# Altium footprint library roboime.PcbLib: 15 footprints
Each footprint in its own frame and in the unit in brackets; x right, y up, seen from the top. Pads: shape width x height; smd on the part's side, far side on the other; paste and mask are expansions set on the pad; w line width, h text height; cw(c..) or ccw(c..) is an arc to the next point about the centre after c.
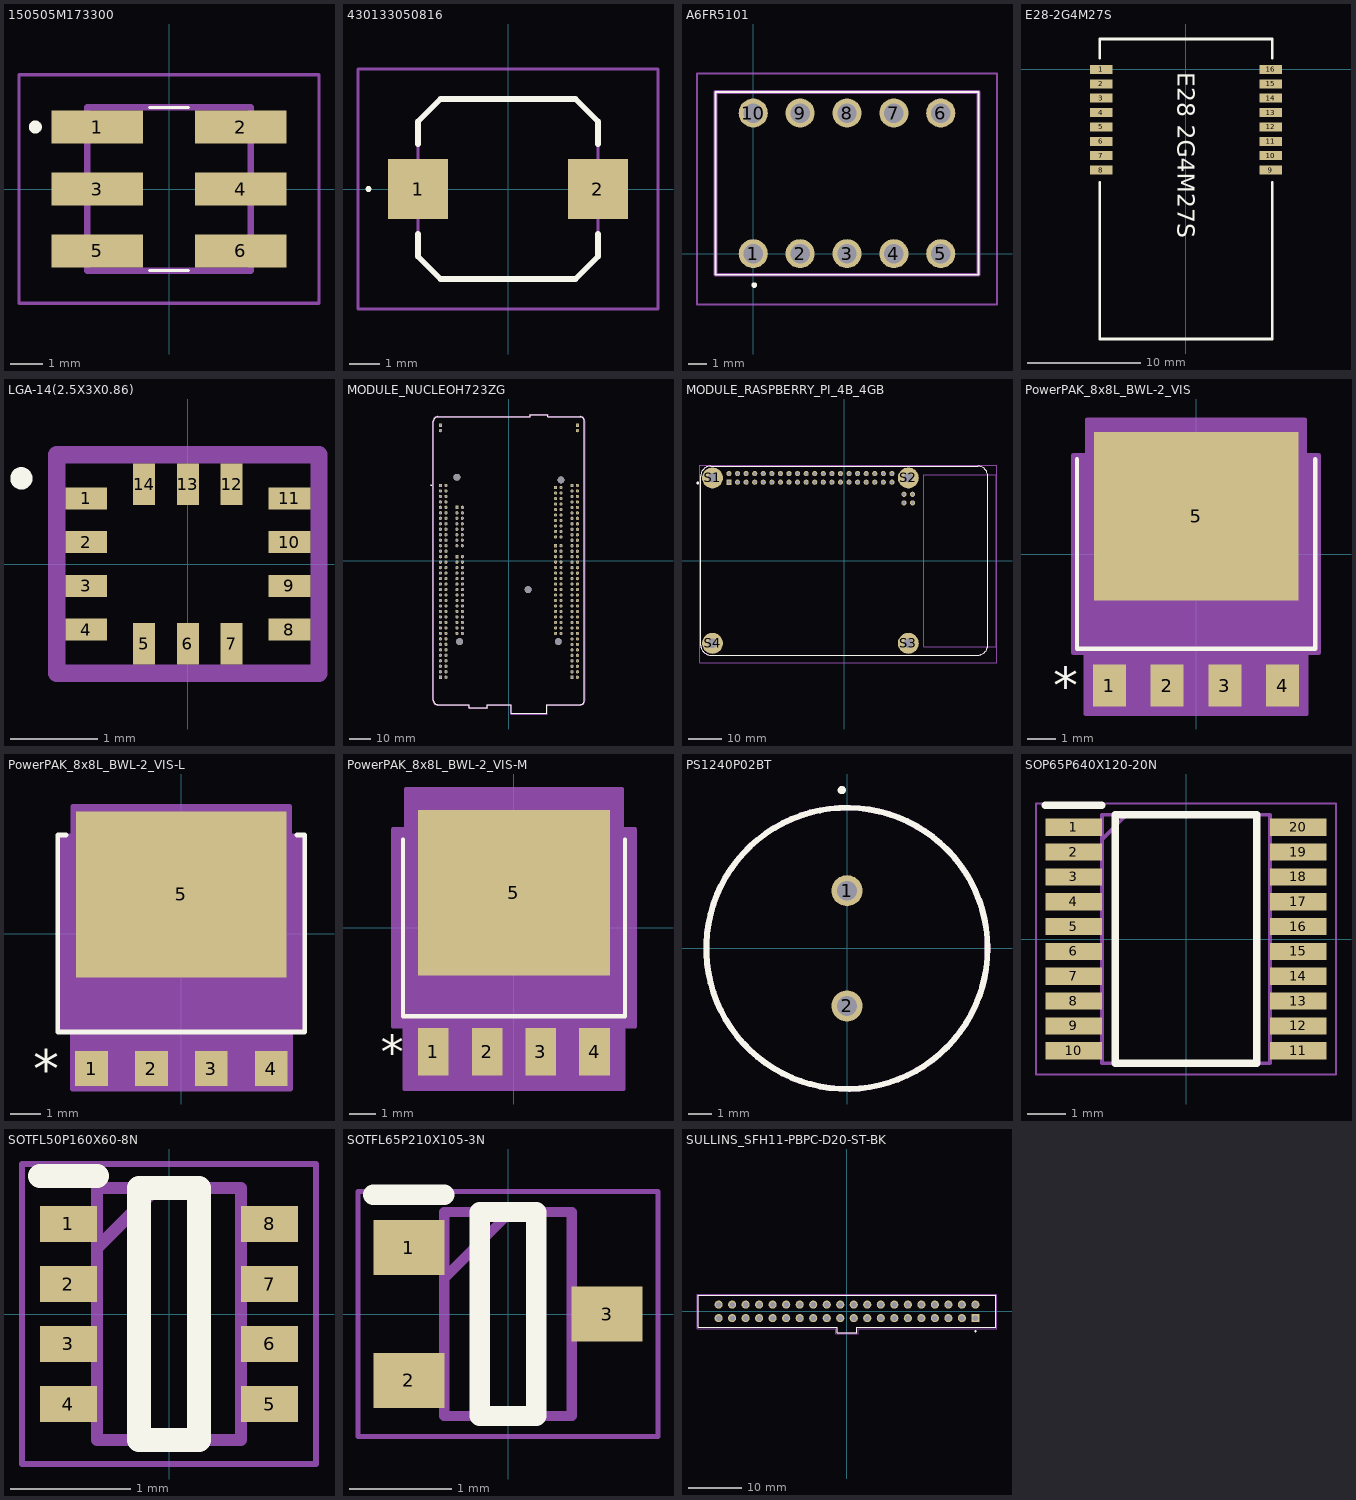
[diagram p0: the footprints below, top view; thin cyan lines are the x and y axes]

## 150505M173300 [mm]
pads (6):
  rect 2.8x1 smd: 1(-2.2,1.9) 2(2.2,1.9) 3(-2.2,0) 4(2.2,0) 5(-2.2,-1.9) 6(2.2,-1.9)
Top Overlay:
  lines w0.1: -0.6,-2.5 0.6,-2.5 ; -0.6,2.5 0.6,2.5
  lines w0.2: -4.1,1.8 cw(c-4.1,1.9) -4.1,2 cw(c-4.1,1.9) -4.1,1.8
Mechanical 13:
  lines w0.2: -2.5,-2.5 2.5,-2.5 2.5,2.5 -2.5,2.5 -2.5,-2.5
Mechanical 15:
  lines w0.1: -4.6,-3.5 4.6,-3.5 4.6,3.5 -4.6,3.5 -4.6,-3.5
3D body "150505M173300.stp": height 1.6, standoff 0, extent -2.7,-2.5 2.7,2.5

## 430133050816 [mm]
pads (2):
  rect 2x2 smd: 1(-3,0) 2(3,0)
Top Overlay:
  lines w0.1: -4.7,0 ccw(c-4.65,0) -4.6,0 ccw(c-4.65,0) -4.7,0
  lines w0.2: -3,-1.5 -3,-2.25 -2.25,-3 2.25,-3 3,-2.25 3,-1.5 ; -3,1.5 -3,2.25 -2.25,3 2.25,3 3,2.25 3,1.5
Mechanical 13:
  lines w0.1: -3,-2.25 -2.25,-3 2.25,-3 3,-2.25 3,2.25 2.25,3 0,3 -2.25,3 -3,2.25 -3,-2.25
Mechanical 15:
  lines w0.1: -5,-4 -5,4 5,4 5,-4 -5,-4
3D body "430133050816.stp": height 5.3, standoff 0, extent -3.8,-3 3.8,3

## A6FR5101 [mm]
pads (10):
  round 1.575 hole 1.05: 1(0,0) 2(2.54,0) 3(5.08,0) 4(7.62,0) 5(10.16,0) 6(10.16,7.62) 7(7.62,7.62) 8(5.08,7.62) 9(2.54,7.62) 10(0,7.62)
Top Overlay:
  lines w0.1: -2.05,-1.14 -2.05,8.76 12.21,8.76 12.21,-1.14 -2.05,-1.14
  lines w0.2: 0,-1.7 ccw(c0.05,-1.7) 0.1,-1.7 ; 0,-1.7 cw(c0.05,-1.7) 0.1,-1.7 ; 0,-1.7 ccw(c0.05,-1.7) 0.1,-1.7
Mechanical 13:
  lines w0.2: -2.05,-1.14 -2.05,8.76 12.21,8.76 12.21,-1.14 -2.05,-1.14
Mechanical 15:
  lines w0.1: -3.05,-2.75 -3.05,9.76 13.21,9.76 13.21,-2.75 -3.05,-2.75
3D body "A6FR-5101.stp": height 10.4, standoff -5, extent -2.05,-1.14 12.21,8.76

## E28-2G4M27S [mm] "E28-2G4M27S Module"
height 2.85
pads (16):
  rect 2x0.8 smd: 1(-7.5,0) 2(-7.5,-1.27) 3(-7.5,-2.54) 4(-7.5,-3.81) 5(-7.5,-5.08) 6(-7.5,-6.35) 7(-7.5,-7.62) 8(-7.5,-8.89) 9(7.5,-8.89) 10(7.5,-7.62) 11(7.5,-6.35) 12(7.5,-5.08) 13(7.5,-3.81) 14(7.5,-2.54) 15(7.5,-1.27) 16(7.5,0)
Top Overlay:
  lines w0.254: -7.62,-10 -7.62,-23.81 7.62,-23.81 7.62,-10 ; -7.62,1 -7.62,2.69 7.62,2.69 7.62,1
  text "E28 2G4M27S" at -0.746,-0.254 h1.52
3D body "E28-2G4M27S.STEP": height 2.81, standoff 0.01, extent -7.5,-23.81 7.5,2.69

## LGA-14(2.5X3X0.86) [mm]
pads (14):
  rect 0.475x0.25 smd: 1(-1.162,0.75) 2(-1.162,0.25) 3(-1.162,-0.25) 4(-1.162,-0.75) 8(1.162,-0.75) 9(1.162,-0.25) 10(1.162,0.25) 11(1.162,0.75)
  rect 0.25x0.475 smd: 5(-0.5,-0.913) 6(0,-0.913) 7(0.5,-0.913) 12(0.5,0.913) 13(0,0.913) 14(-0.5,0.913)
Top Overlay:
  circle w0.2: c-1.905,0.98 r0.027
Mechanical 13:
  lines w0.2: -1.5,-1.25 -1.5,1.25 1.5,1.25 1.5,-1.25 -1.5,-1.25
3D body "LSM6DS3TR-C.stp": height 0.86, standoff 0, extent -1.5,-1.25 1.5,1.25

## MODULE_NUCLEOH723ZG [mm]
height 18.57
pads (253):
  rect 1.508x1.508 / inner round 1.508 / far side rect 1.508x1.508 hole 1: CN3_1(-31.75,62.87) CN4_1(31.75,62.87) CN7_1(21.59,33.914) CN8_1(-24.13,24.77) CN9_1(-24.13,1.91) CN10_1(21.59,6.99) CN11_1(-31.75,34.93) CN12_1(29.21,34.91) CN15_1(29.21,-53.99) CN16_1(-31.75,-53.97)
  round 1.508 hole 1: CN3_2(-31.75,60.33) CN4_2(31.75,60.33) CN7_2(24.13,33.914) CN7_3(21.59,31.374) CN7_4(24.13,31.374) CN7_5(21.59,28.834) CN7_6(24.13,28.834) CN7_7(21.59,26.294) CN7_8(24.13,26.294) CN7_9(21.59,23.754) CN7_10(24.13,23.754) CN7_11(21.59,21.214) CN7_12(24.13,21.214) CN7_13(21.59,18.674) CN7_14(24.13,18.674) CN7_15(21.59,16.134) CN7_16(24.13,16.134) CN7_17(21.59,13.594) CN7_18(24.13,13.594) CN7_19(21.59,11.054) CN7_20(24.13,11.054) CN8_2(-21.59,24.77) CN8_3(-24.13,22.23) CN8_4(-21.59,22.23) CN8_5(-24.13,19.69) CN8_6(-21.59,19.69) CN8_7(-24.13,17.15) CN8_8(-21.59,17.15) CN8_9(-24.13,14.61) CN8_10(-21.59,14.61) CN8_11(-24.13,12.07) CN8_12(-21.59,12.07) CN8_13(-24.13,9.53) CN8_14(-21.59,9.53) CN8_15(-24.13,6.99) CN8_16(-21.59,6.99) CN9_2(-21.59,1.91) CN9_3(-24.13,-0.63) CN9_4(-21.59,-0.63) CN9_5(-24.13,-3.17) CN9_6(-21.59,-3.17) CN9_7(-24.13,-5.71) CN9_8(-21.59,-5.71) CN9_9(-24.13,-8.25) CN9_10(-21.59,-8.25) CN9_11(-24.13,-10.79) CN9_12(-21.59,-10.79) CN9_13(-24.13,-13.33) CN9_14(-21.59,-13.33) CN9_15(-24.13,-15.87) CN9_16(-21.59,-15.87) CN9_17(-24.13,-18.41) CN9_18(-21.59,-18.41) CN9_19(-24.13,-20.95) CN9_20(-21.59,-20.95) CN9_21(-24.13,-23.49) CN9_22(-21.59,-23.49) CN9_23(-24.13,-26.03) CN9_24(-21.59,-26.03) CN9_25(-24.13,-28.57) CN9_26(-21.59,-28.57) CN9_27(-24.13,-31.11) CN9_28(-21.59,-31.11) CN9_29(-24.13,-33.65) CN9_30(-21.59,-33.65) CN10_2(24.13,6.99) CN10_3(21.59,4.45) CN10_4(24.13,4.45) CN10_5(21.59,1.91) CN10_6(24.13,1.91) CN10_7(21.59,-0.63) CN10_8(24.13,-0.63) CN10_9(21.59,-3.17) CN10_10(24.13,-3.17) CN10_11(21.59,-5.71) CN10_12(24.13,-5.71) CN10_13(21.59,-8.25) CN10_14(24.13,-8.25) CN10_15(21.59,-10.79) CN10_16(24.13,-10.79) CN10_17(21.59,-13.33) CN10_18(24.13,-13.33) CN10_19(21.59,-15.87) CN10_20(24.13,-15.87) CN10_21(21.59,-18.41) CN10_22(24.13,-18.41) CN10_23(21.59,-20.95) CN10_24(24.13,-20.95) CN10_25(21.59,-23.49) CN10_26(24.13,-23.49) CN10_27(21.59,-26.03) CN10_28(24.13,-26.03) CN10_29(21.59,-28.57) CN10_30(24.13,-28.57) CN10_31(21.59,-31.11) CN10_32(24.13,-31.11) CN10_33(21.59,-33.65) CN10_34(24.13,-33.65) CN11_2(-29.21,34.93) CN11_3(-31.75,32.39) CN11_4(-29.21,32.39) CN11_5(-31.75,29.85) CN11_6(-29.21,29.85) CN11_7(-31.75,27.31) CN11_8(-29.21,27.31) CN11_9(-31.75,24.77) CN11_10(-29.21,24.77) CN11_11(-31.75,22.23) CN11_12(-29.21,22.23) CN11_13(-31.75,19.69) CN11_14(-29.21,19.69) CN11_15(-31.75,17.15) CN11_16(-29.21,17.15) CN11_17(-31.75,14.61) CN11_18(-29.21,14.61) CN11_19(-31.75,12.07) CN11_20(-29.21,12.07) CN11_21(-31.75,9.53) CN11_22(-29.21,9.53) CN11_23(-31.75,6.99) CN11_24(-29.21,6.99) CN11_25(-31.75,4.45) CN11_26(-29.21,4.45) CN11_27(-31.75,1.91) CN11_28(-29.21,1.91) CN11_29(-31.75,-0.63) CN11_30(-29.21,-0.63) CN11_31(-31.75,-3.17) CN11_32(-29.21,-3.17) CN11_33(-31.75,-5.71) CN11_34(-29.21,-5.71) CN11_35(-31.75,-8.25) CN11_36(-29.21,-8.25) CN11_37(-31.75,-10.79) CN11_38(-29.21,-10.79) CN11_39(-31.75,-13.33) CN11_40(-29.21,-13.33) CN11_41(-31.75,-15.87) CN11_42(-29.21,-15.87) CN11_43(-31.75,-18.41) CN11_44(-29.21,-18.41) CN11_45(-31.75,-20.95) CN11_46(-29.21,-20.95) CN11_47(-31.75,-23.49) CN11_48(-29.21,-23.49) CN11_49(-31.75,-26.03) CN11_50(-29.21,-26.03) CN11_51(-31.75,-28.57) CN11_52(-29.21,-28.57) CN11_53(-31.75,-31.11) CN11_54(-29.21,-31.11) CN11_55(-31.75,-33.65) CN11_56(-29.21,-33.65) CN11_57(-31.75,-36.19) CN11_58(-29.21,-36.19) CN11_59(-31.75,-38.73) CN11_60(-29.21,-38.73) CN11_61(-31.75,-41.27) CN11_62(-29.21,-41.27) CN11_63(-31.75,-43.81) CN11_64(-29.21,-43.81) CN11_65(-31.75,-46.35) CN11_66(-29.21,-46.35) CN11_67(-31.75,-48.89) CN11_68(-29.21,-48.89) CN11_69(-31.75,-51.43) CN11_70(-29.21,-51.43) CN12_2(31.75,34.91) CN12_3(29.21,32.37) CN12_4(31.75,32.37) CN12_5(29.21,29.83) CN12_6(31.75,29.83) CN12_7(29.21,27.29) CN12_8(31.75,27.29) CN12_9(29.21,24.75) CN12_10(31.75,24.75) CN12_11(29.21,22.21) CN12_12(31.75,22.21) CN12_13(29.21,19.67) CN12_14(31.75,19.67) CN12_15(29.21,17.13) CN12_16(31.75,17.13) CN12_17(29.21,14.59) CN12_18(31.75,14.59) CN12_19(29.21,12.05) CN12_20(31.75,12.05) CN12_21(29.21,9.51) CN12_22(31.75,9.51) CN12_23(29.21,6.97) CN12_24(31.75,6.97) CN12_25(29.21,4.43) CN12_26(31.75,4.43) CN12_27(29.21,1.89) CN12_28(31.75,1.89) CN12_29(29.21,-0.65) CN12_30(31.75,-0.65) CN12_31(29.21,-3.19) CN12_32(31.75,-3.19) CN12_33(29.21,-5.73) CN12_34(31.75,-5.73) CN12_35(29.21,-8.27) CN12_36(31.75,-8.27) CN12_37(29.21,-10.81) CN12_38(31.75,-10.81) CN12_39(29.21,-13.35) CN12_40(31.75,-13.35) CN12_41(29.21,-15.89) CN12_42(31.75,-15.89) CN12_43(29.21,-18.43) CN12_44(31.75,-18.43) CN12_45(29.21,-20.97) CN12_46(31.75,-20.97) CN12_47(29.21,-23.51) CN12_48(31.75,-23.51) CN12_49(29.21,-26.05) CN12_50(31.75,-26.05) CN12_51(29.21,-28.59) CN12_52(31.75,-28.59) CN12_53(29.21,-31.13) CN12_54(31.75,-31.13) CN12_55(29.21,-33.67) CN12_56(31.75,-33.67) CN12_57(29.21,-36.21) CN12_58(31.75,-36.21) CN12_59(29.21,-38.75) CN12_60(31.75,-38.75) CN12_61(29.21,-41.29) CN12_62(31.75,-41.29) CN12_63(29.21,-43.83) CN12_64(31.75,-43.83) CN12_65(29.21,-46.37) CN12_66(31.75,-46.37) CN12_67(29.21,-48.91) CN12_68(31.75,-48.91) CN12_69(29.21,-51.45) CN12_70(31.75,-51.45) CN15_2(31.75,-53.99) CN16_2(-29.21,-53.97)
  round 3.2 hole 3.2 unplated: ""(-24.13,38.74) ""(-22.86,-37.46) ""(8.89,-13.33) ""(22.86,-37.46) ""(24.13,37.47)
Top Overlay:
  circle w0.2: c-36.04,34.93 r0.1
  lines w0.127: -35,-64.67 ccw(c-33,-64.67) -33,-66.67 -18.34,-66.67 -18.34,-68.02 -10.02,-68.02 -10.02,-66.67 1.14,-66.67 1.14,-70.77 17.59,-70.77 17.59,-66.67 33,-66.67 ccw(c33,-64.67) 35,-64.67 35,64.67 ccw(c33,64.67) 33,66.67 18.07,66.67 18.07,67.79 9.87,67.79 9.87,66.67 -33,66.67 ccw(c-33,64.67) -35,64.67 -35,-64.67
Mechanical 13:
  circle w0.2: c-36.04,34.93 r0.1
  lines w0.127: -35,-64.67 ccw(c-33,-64.67) -33,-66.67 -18.34,-66.67 -18.34,-68.02 -10.02,-68.02 -10.02,-66.67 1.14,-66.67 1.14,-70.77 17.59,-70.77 17.59,-66.67 33,-66.67 ccw(c33,-64.67) 35,-64.67 35,64.67 ccw(c33,64.67) 33,66.67 18.07,66.67 18.07,67.79 9.87,67.79 9.87,66.67 -33,66.67 ccw(c-33,64.67) -35,64.67 -35,-64.67
Mechanical 15:
  lines w0.05: -35.25,-64.67 ccw(c-33,-64.67) -33,-66.92 -18.59,-66.92 -18.59,-68.27 -9.77,-68.27 -9.77,-66.92 0.89,-66.92 0.89,-71.02 17.84,-71.02 17.84,-66.92 33,-66.92 ccw(c33,-64.67) 35.25,-64.67 35.25,64.67 ccw(c33,64.67) 33,66.92 18.32,66.92 18.32,68.04 9.62,68.04 9.62,66.92 -33,66.92 ccw(c-33,64.67) -35.25,64.67 -35.25,-64.67

## MODULE_RASPBERRY_PI_4B_4GB [mil]
height 629.92
pads (48):
  rect 60x60 / inner round 60 / far side rect 60x60 hole 40: 1(-1343.7,914.57)
  round 60 hole 40: 2(-1343.7,1014.57) 3(-1243.7,914.57) 4(-1243.7,1014.57) 5(-1143.7,914.57) 6(-1143.7,1014.57) 7(-1043.7,914.57) 8(-1043.7,1014.57) 9(-943.7,914.57) 10(-943.7,1014.57) 11(-843.7,914.57) 12(-843.7,1014.57) 13(-743.7,914.57) 14(-743.7,1014.57) 15(-643.7,914.57) 16(-643.7,1014.57) 17(-543.7,914.57) 18(-543.7,1014.57) 19(-443.7,914.57) 20(-443.7,1014.57) 21(-343.7,914.57) 22(-343.7,1014.57) 23(-243.7,914.57) 24(-243.7,1014.57) 25(-143.7,914.57) 26(-143.7,1014.57) 27(-43.7,914.57) 28(-43.7,1014.57) 29(56.3,914.57) 30(56.3,1014.57) 31(156.3,914.57) 32(156.3,1014.57) 33(256.3,914.57) 34(256.3,1014.57) 35(356.3,914.57) 36(356.3,1014.57) 37(456.3,914.57) 38(456.3,1014.57) 39(556.3,914.57) 40(556.3,1014.57) 41(796.46,673.5) 42(796.46,773.5) 43(696.46,673.5) 44(696.46,773.5)
  round 244.09 hole 108.27: S1(-1535.43,964.57) S2(748.03,964.57) S3(748.03,-964.57) S4(-1535.43,-964.57)
Top Overlay:
  circle w15.75: c-1708.66,905.51 r7.87
  lines w5: -1673.23,-984.25 ccw(c-1555.12,-984.25) -1555.12,-1102.36 1555.12,-1102.36 ccw(c1555.12,-984.25) 1673.23,-984.25 1673.23,984.25 ccw(c1555.12,984.25) 1555.12,1102.36 -1555.12,1102.36 ccw(c-1555.12,984.25) -1673.23,984.25 -1673.23,-984.25
Mechanical 13:
  circle w15.75: c-1708.66,905.51 r7.87
  lines w5: -1673.23,-984.25 ccw(c-1555.12,-984.25) -1555.12,-1102.36 1555.12,-1102.36 ccw(c1555.12,-984.25) 1673.23,-984.25 1673.23,984.25 ccw(c1555.12,984.25) 1555.12,1102.36 -1555.12,1102.36 ccw(c-1555.12,984.25) -1673.23,984.25 -1673.23,-984.25 ; 925.2,-1003.94 925.2,1003.94 1771.65,1003.94 1771.65,-1003.94 925.2,-1003.94
Mechanical 15:
  lines w1.97: -1683.07,-1191.14 1781.5,-1191.14 1781.5,1112.2 -1683.07,1112.2 -1683.07,-1191.14

## PowerPAK_8x8L_BWL-2_VIS [mil]
pads (5):
  rect 44.97x57.56 smd paste+0 mask+0: 1(-118.11,-179.5) 2(-39.37,-179.5) 3(39.37,-179.5) 4(118.11,-179.5)
  rect 279x230 smd paste+0 mask+0: 5(0,51.5)
Top Overlay:
  lines w6: -162.5,129.5 -162.5,-129.5 162.5,-129.5 162.5,129.5
  text "*" at -194.98,-204.5 h50
Mechanical 13:
  lines w1: -157.5,-124.5 -157.5,124.5 157.5,124.5 157.5,-124.5 -157.5,-124.5 ; -139.61,-194.5 -96.61,-194.5 -96.61,-124.5 -139.61,-124.5 -139.61,-194.5 ; -60.87,-194.5 -17.87,-194.5 -17.87,-124.5 -60.87,-124.5 -60.87,-194.5 ; 17.87,-194.5 60.87,-194.5 60.87,-124.5 17.87,-124.5 17.87,-194.5 ; 96.61,-194.5 139.61,-194.5 139.61,-124.5 96.61,-124.5 96.61,-194.5
  text "*" at -130.61,-139.5 h50
Mechanical 15:
  region: -167.5,-134.5 -167.5,134.5 -148.5,134.5 -148.5,183.5 148.5,183.5 148.5,134.5 167.5,134.5 167.5,-134.5 150.59,-134.5 150.59,-218.28 -150.59,-218.28 -150.59,-134.5
  lines w6: -167.5,-134.5 -150.59,-134.5 -150.59,-218.28 150.59,-218.28 150.59,-134.5 167.5,-134.5 167.5,134.5 148.5,134.5 148.5,183.5 -148.5,183.5 -148.5,134.5 -167.5,134.5 -167.5,-134.5
3D body "PowerPAK_8x8L_BWL-2_VIS.step": height 67.09, standoff -2.01, extent -157.48,-194.49 157.48,152.52

## PowerPAK_8x8L_BWL-2_VIS-L [mil]
pads (5):
  rect 43x45.75 smd paste+0 mask+0: 1(-118.11,-177.53) 2(-39.37,-177.53) 3(39.37,-177.53) 4(118.11,-177.53)
  rect 277x218 smd paste+0 mask+0: 5(0,51.5)
Top Overlay:
  lines w6: -151.6,129.5 -162.5,129.5 -162.5,-129.5 162.5,-129.5 162.5,129.5 151.6,129.5
  text "*" at -194.98,-202.53 h50
Mechanical 13:
  lines w1: -157.5,-124.5 157.5,-124.5 157.5,124.5 -157.5,124.5 -157.5,-124.5 ; -139.61,-194.5 -139.61,-124.5 -96.61,-124.5 -96.61,-194.5 -139.61,-194.5 ; -60.87,-194.5 -60.87,-124.5 -17.87,-124.5 -17.87,-194.5 -60.87,-194.5 ; 17.87,-194.5 17.87,-124.5 60.87,-124.5 60.87,-194.5 17.87,-194.5 ; 96.61,-194.5 96.61,-124.5 139.61,-124.5 139.61,-194.5 96.61,-194.5
  text "*" at -130.61,-139.5 h50
Mechanical 15:
  region: -161.5,-128.5 -161.5,128.5 -142.5,128.5 -142.5,167.5 142.5,167.5 142.5,128.5 161.5,128.5 161.5,-128.5 143.61,-128.5 143.61,-204.41 -143.61,-204.41 -143.61,-128.5
  lines w6: -161.5,-128.5 -161.5,128.5 -142.5,128.5 -142.5,167.5 142.5,167.5 142.5,128.5 161.5,128.5 161.5,-128.5 143.61,-128.5 143.61,-204.41 -143.61,-204.41 -143.61,-128.5 -161.5,-128.5
3D body "PowerPAK_8x8L_BWL-2_VIS.step": height 67.09, standoff -2.01, extent -157.48,-194.49 157.48,152.52

## PowerPAK_8x8L_BWL-2_VIS-M [mm]
pads (5):
  rect 1.142x1.762 smd paste+0 mask+0: 1(-3,-4.609) 2(-1,-4.609) 3(1,-4.609) 4(3,-4.609)
  rect 7.137x6.147 smd paste+0 mask+0: 5(0,1.308)
Top Overlay:
  lines w0.152: -4.127,3.289 -4.127,-3.289 4.127,-3.289 4.127,3.289
  text "*" at -4.952,-5.244 h1.27
Mechanical 13:
  lines w0.025: -4,-3.162 4,-3.162 4,3.162 -4,3.162 -4,-3.162 ; -3.546,-4.94 -3.546,-3.162 -2.454,-3.162 -2.454,-4.94 -3.546,-4.94 ; -1.546,-4.94 -1.546,-3.162 -0.454,-3.162 -0.454,-4.94 -1.546,-4.94 ; 0.454,-4.94 0.454,-3.162 1.546,-3.162 1.546,-4.94 0.454,-4.94 ; 2.454,-4.94 2.454,-3.162 3.546,-3.162 3.546,-4.94 2.454,-4.94
  text "*" at -3.317,-3.543 h1.27
Mechanical 15:
  region: -4.508,-3.67 -4.508,3.67 -4.026,3.67 -4.026,5.169 4.026,5.169 4.026,3.67 4.508,3.67 4.508,-3.67 4.079,-3.67 4.079,-5.998 -4.079,-5.998 -4.079,-3.67
  lines w0.152: -4.508,-3.67 -4.508,3.67 -4.026,3.67 -4.026,5.169 4.026,5.169 4.026,3.67 4.508,3.67 4.508,-3.67 4.079,-3.67 4.079,-5.998 -4.079,-5.998 -4.079,-3.67 -4.508,-3.67
3D body "PowerPAK_8x8L_BWL-2_VIS.step": height 1.7, standoff -0.05, extent -4,-4.94 4,3.874

## PS1240P02BT [mm]
pads (2):
  round 1.35 hole 0.85: 1(0,2.5) 2(0,-2.5)
Top Overlay:
  circle w0.254: c-0.228,6.861 r0.05
  circle w0.254: c0,0 r6.1
Mechanical 13:
  circle w0.254: c0,0 r6.1
3D body "PS1240P02BT.stp": height 7.11, standoff -14.89, extent -6.1,-6.058 6.1,6.118

## SOP65P640X120-20N [mm]
pads (20):
  rect 1.475x0.45 smd: 1(-2.938,2.925) 2(-2.938,2.275) 3(-2.938,1.625) 4(-2.938,0.975) 5(-2.938,0.325) 6(-2.938,-0.325) 7(-2.938,-0.975) 8(-2.938,-1.625) 9(-2.938,-2.275) 10(-2.938,-2.925) 11(2.938,-2.925) 12(2.938,-2.275) 13(2.938,-1.625) 14(2.938,-0.975) 15(2.938,-0.325) 16(2.938,0.325) 17(2.938,0.975) 18(2.938,1.625) 19(2.938,2.275) 20(2.938,2.925)
Top Overlay:
  lines w0.2: -3.675,3.5 -2.2,3.5 ; -1.85,-3.25 -1.85,3.25 1.85,3.25 1.85,-3.25 -1.85,-3.25
Mechanical 13:
  lines w0.1: -2.2,2.6 -1.55,3.25 ; -2.2,-3.25 -2.2,3.25 2.2,3.25 2.2,-3.25 -2.2,-3.25
Mechanical 15:
  lines w0.05: -3.925,-3.55 -3.925,3.55 3.925,3.55 3.925,-3.55 -3.925,-3.55
3D body "PCF8574APWR.stp": height 1.13, standoff 0, extent -3.2,-3.25 3.2,3.25

## SOTFL50P160X60-8N [mm]
pads (8):
  rect 0.475x0.3 smd: 1(-0.838,0.75) 2(-0.838,0.25) 3(-0.838,-0.25) 4(-0.838,-0.75) 5(0.838,-0.75) 6(0.838,-0.25) 7(0.838,0.25) 8(0.838,0.75)
Top Overlay:
  lines w0.2: -1.075,1.15 -0.6,1.15 ; -0.25,-1.05 -0.25,1.05 0.25,1.05 0.25,-1.05 -0.25,-1.05
Mechanical 13:
  lines w0.1: -0.6,0.55 -0.1,1.05 ; -0.6,-1.05 -0.6,1.05 0.6,1.05 0.6,-1.05 -0.6,-1.05
Mechanical 15:
  lines w0.05: -1.225,-1.25 -1.225,1.25 1.225,1.25 1.225,-1.25 -1.225,-1.25
3D body "TPS563300DRLR.stp": height 0.6, standoff 0, extent -0.8,-1.05 0.8,1.05

## SOTFL65P210X105-3N [mm]
pads (3):
  rect 0.695x0.54 smd: 1(-0.972,0.65) 2(-0.972,-0.65) 3(0.972,0)
Top Overlay:
  lines w0.2: -1.32,1.17 -0.625,1.17 ; -0.275,-1 -0.275,1 0.275,1 0.275,-1 -0.275,-1
Mechanical 13:
  lines w0.1: -0.625,0.35 0.025,1 ; -0.625,-1 -0.625,1 0.625,1 0.625,-1 -0.625,-1
Mechanical 15:
  lines w0.05: -1.47,-1.2 -1.47,1.2 1.47,1.2 1.47,-1.2 -1.47,-1.2
3D body "DTC143ZUBTL.stp": height 1.05, standoff 0, extent -1.05,-1 1.05,1

## SULLINS_SFH11-PBPC-D20-ST-BK [mm]
pads (40):
  rect 1.53x1.53 hole 1.02: 01(24.13,-1.27)
  round 1.53 hole 1.02: 02(24.13,1.27) 03(21.59,-1.27) 04(21.59,1.27) 05(19.05,-1.27) 06(19.05,1.27) 07(16.51,-1.27) 08(16.51,1.27) 09(13.97,-1.27) 10(13.97,1.27) 11(11.43,-1.27) 12(11.43,1.27) 13(8.89,-1.27) 14(8.89,1.27) 15(6.35,-1.27) 16(6.35,1.27) 17(3.81,-1.27) 18(3.81,1.27) 19(1.27,-1.27) 20(1.27,1.27) 21(-1.27,-1.27) 22(-1.27,1.27) 23(-3.81,-1.27) 24(-3.81,1.27) 25(-6.35,-1.27) 26(-6.35,1.27) 27(-8.89,-1.27) 28(-8.89,1.27) 29(-11.43,-1.27) 30(-11.43,1.27) 31(-13.97,-1.27) 32(-13.97,1.27) 33(-16.51,-1.27) 34(-16.51,1.27) 35(-19.05,-1.27) 36(-19.05,1.27) 37(-21.59,-1.27) 38(-21.59,1.27) 39(-24.13,-1.27) 40(-24.13,1.27)
Top Overlay:
  circle w0.2: c24.154,-3.746 r0.1
  lines w0.127: -27.94,-3 -1.85,-3 -1.85,-4 1.85,-4 1.85,-3 27.94,-3 27.94,3 -27.94,3 -27.94,-3
Mechanical 13:
  circle w0.2: c24.154,-3.746 r0.1
  lines w0.127: -27.94,-3 -27.94,3 27.94,3 27.94,-3 1.85,-3 1.85,-4 -1.85,-4 -1.85,-3 -27.94,-3
Mechanical 15:
  lines w0.05: -28.19,-3.25 -28.19,3.25 28.19,3.25 28.19,-3.25 2.1,-3.25 2.1,-4.25 -2.1,-4.25 -2.1,-3.25 -28.19,-3.25
3D body "step_temp.STEP": height 8.5, standoff -3.2, extent -27.94,-4 27.94,3